# EAGLE library part BQ25886 (library PP_PowerIC)
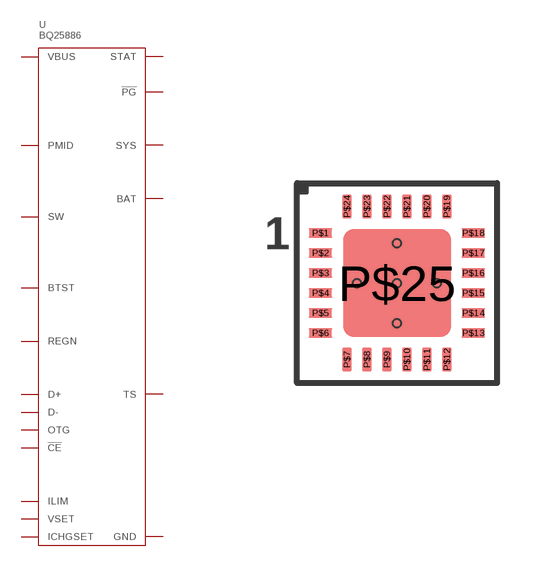
[diagram p20: symbol with the pads of BQ25886_VQFN-24; footprint BQ25886_VQFN-24]

Designator prefix U

## BQ25886RGER  [BQ25886_VQFN-24]
P$1  D-
P$2  STAT
P$3  !CE
P$4  GND
P$5  OTG
P$6  VSET
P$7  TS
P$8  ILIM
P$9  !PG
P$10  ICHGSET
P$11  REGN
P$12  BTST
P$13  BAT
P$14  BAT
P$15  SYS
P$16  SYS
P$17  SW
P$18  SW
P$19  GND
P$20  GND
P$21  PMID
P$22  PMID
P$23  VBUS
P$24  D+
P$25  GND

## Footprint BQ25886_VQFN-24 (pad centres in mm)
smd 0.58 x 0.24: P$1 -1.913,1.25; P$2 -1.913,0.75; P$3 -1.913,0.25; P$4 -1.913,-0.25; P$5 -1.913,-0.75; P$6 -1.913,-1.25; P$13 1.913,-1.25; P$14 1.913,-0.75; P$15 1.913,-0.25; P$16 1.913,0.25; P$17 1.913,0.75; P$18 1.913,1.25
smd 0.24 x 0.58: P$7 -1.25,-1.913; P$8 -0.75,-1.913; P$9 -0.25,-1.913; P$10 0.25,-1.913; P$11 0.75,-1.913; P$12 1.25,-1.913; P$19 1.25,1.913; P$20 0.75,1.913; P$21 0.25,1.913; P$22 -0.25,1.913; P$23 -0.75,1.913; P$24 -1.25,1.913
smd 2.7 x 2.7: P$25 0,0
hole 0.2 at 0,1
hole 0.2 at -1,0
hole 0.2 at 0,-1
hole 0.2 at 1,0
hole 0.2 at 0,0